# EAGLE library part PTN78060WAH (library DSDEagleLibrary)
PTN78060WAH is capable of: power: 45 W input: 7 to 36 V output: 2.5 to 12.6V max current: 3A temp: -40 to +85 degC http://www.mouser.com/ProductDetail/Texas-Instruments/PTN78060WAH/?qs=sSOk4GDDv7xqFlIV5NvSWQ==
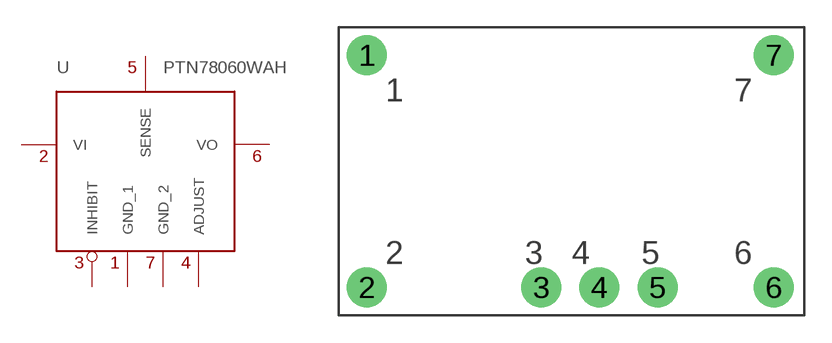
[diagram p1: symbol with the pads of PTN78060WAH; footprint PTN78060WAH]

Designator prefix -

## PTN78060WAH  [PTN78060WAH]
1  GND_1
2  VI
3  INHIBIT
4  ADJUST
5  SENSE
6  VO
7  GND_2

## Footprint PTN78060WAH (pad centres in mm)
drill 1.1 pad 2.184: 1 -11.176,6.35; 2 -11.176,-6.35; 3 -1.651,-6.35; 4 1.524,-6.35; 5 4.699,-6.35; 6 11.049,-6.35; 7 11.049,6.35